# EAGLE library part ATMEGA128 (library atmel_prototype_header)
MICROCONTROLLER 128 Kbytes FLASH 4 Kbytes SRAM 4 Kbytes EEPROM DUAL USART 8-channel 10 bit ADC
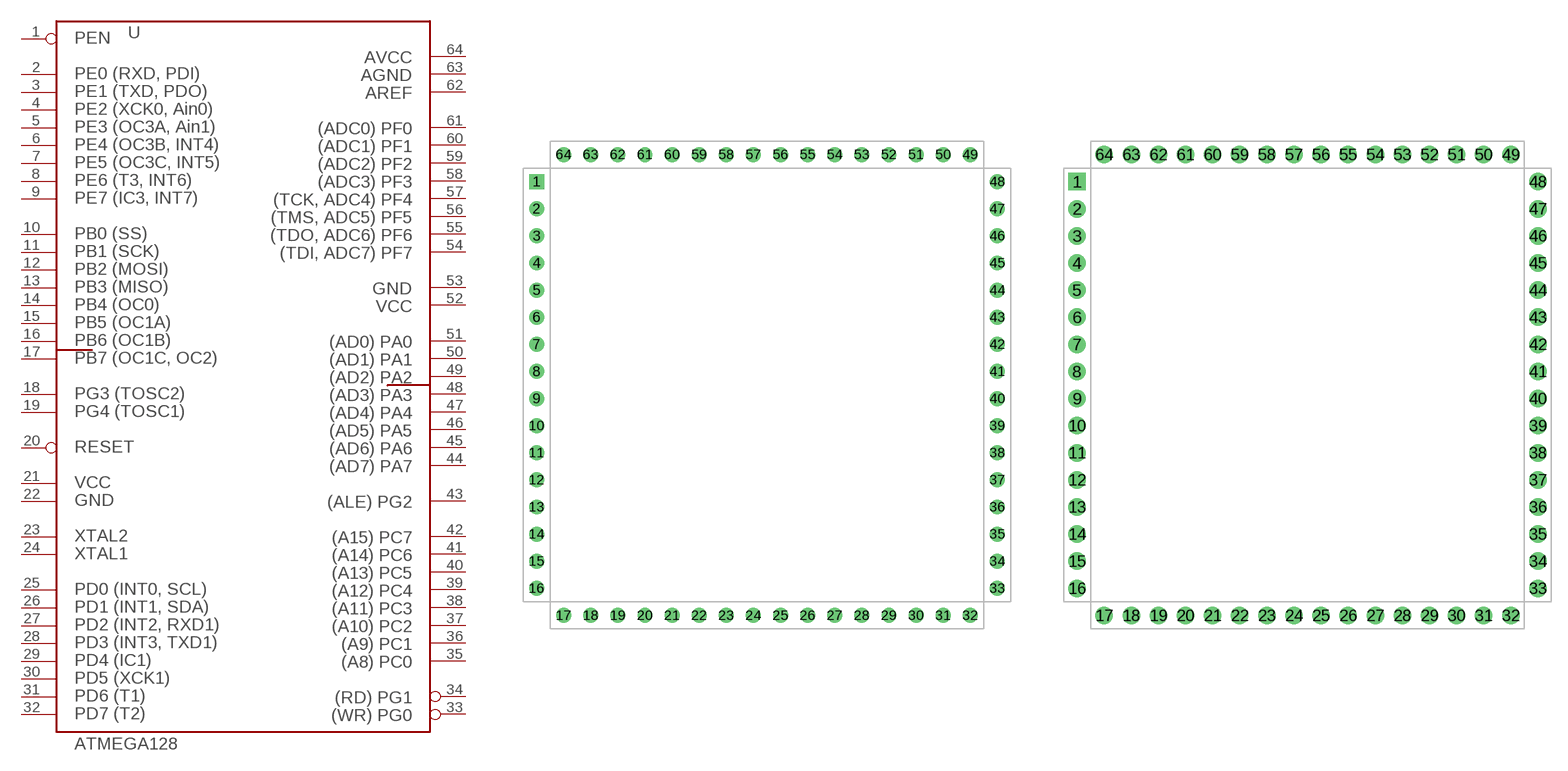
[diagram p0: symbol with the pads of HEADER_SQR64_35; footprints HEADER_SQR64_35, HEADER_SQR64_43]

Designator prefix U

## ATMEGA128_SINGLE64_35  [HEADER_SQR64_35]
1  1  in
2  2
3  3
4  4
5  5
6  6
7  7
8  8
9  9
10  10
11  11
12  12
13  13
14  14
15  15
16  16
17  17
18  18
19  19
20  20  in
21  21  pwr
22  22  pwr
23  23
24  24
25  25
26  26
27  27
28  28
29  29
30  30
31  31
32  32
33  33
34  34
35  35  out
36  36  out
37  37  out
38  38  out
39  39  out
40  40  out
41  41  out
42  42  out
43  43
44  44
45  45
46  46
47  47
48  48
49  49
50  50
51  51
52  52  pwr
53  53  pwr
54  54  in
55  55  in
56  56  in
57  57  in
58  58  in
59  59  in
60  60  in
61  61  in
62  62
63  63
64  64

## ATMEGA128_SINGLE64_43  [HEADER_SQR64_43]
Pads as for HEADER_SQR64_35

## ATMEGA128_TQPF  [TQFP64]
Pads as for HEADER_SQR64_35

## ATMEGA128_DUAL64_43  [HEADER_DUALSQR64_43]
Pads as for HEADER_SQR64_35

## ATMEGA128_DUAL64_35  [HEADER_DUALSQR64_35]
Pads as for HEADER_SQR64_35

## Footprint HEADER_SQR64_35 (pad centres in mm)
drill 0.889 square: 1 -10.16,11.43
drill 0.889: 2 -10.16,8.89; 3 -10.16,6.35; 4 -10.16,3.81; 5 -10.16,1.27; 6 -10.16,-1.27; 7 -10.16,-3.81; 8 -10.16,-6.35; 9 -10.16,-8.89; 10 -10.16,-11.43; 11 -10.16,-13.97; 12 -10.16,-16.51; 13 -10.16,-19.05; 14 -10.16,-21.59; 15 -10.16,-24.13; 16 -10.16,-26.67; 17 -7.62,-29.21; 18 -5.08,-29.21; 19 -2.54,-29.21; 20 0,-29.21; 21 2.54,-29.21; 22 5.08,-29.21; 23 7.62,-29.21; 24 10.16,-29.21; 25 12.7,-29.21; 26 15.24,-29.21; 27 17.78,-29.21; 28 20.32,-29.21; 29 22.86,-29.21; 30 25.4,-29.21; 31 27.94,-29.21; 32 30.48,-29.21; 33 33.02,-26.67; 34 33.02,-24.13; 35 33.02,-21.59; 36 33.02,-19.05; 37 33.02,-16.51; 38 33.02,-13.97; 39 33.02,-11.43; 40 33.02,-8.89; 41 33.02,-6.35; 42 33.02,-3.81; 43 33.02,-1.27; 44 33.02,1.27; 45 33.02,3.81; 46 33.02,6.35; 47 33.02,8.89; 48 33.02,11.43; 49 30.48,13.97; 50 27.94,13.97; 51 25.4,13.97; 52 22.86,13.97; 53 20.32,13.97; 54 17.78,13.97; 55 15.24,13.97; 56 12.7,13.97; 57 10.16,13.97; 58 7.62,13.97; 59 5.08,13.97; 60 2.54,13.97; 61 0,13.97; 62 -2.54,13.97; 63 -5.08,13.97; 64 -7.62,13.97

## Footprint HEADER_SQR64_43 (pad centres in mm)
drill 1.092 square: 1 -21.59,19.05
drill 1.092: 2 -21.59,16.51; 3 -21.59,13.97; 4 -21.59,11.43; 5 -21.59,8.89; 6 -21.59,6.35; 7 -21.59,3.81; 8 -21.59,1.27; 9 -21.59,-1.27; 10 -21.59,-3.81; 11 -21.59,-6.35; 12 -21.59,-8.89; 13 -21.59,-11.43; 14 -21.59,-13.97; 15 -21.59,-16.51; 16 -21.59,-19.05; 17 -19.05,-21.59; 18 -16.51,-21.59; 19 -13.97,-21.59; 20 -11.43,-21.59; 21 -8.89,-21.59; 22 -6.35,-21.59; 23 -3.81,-21.59; 24 -1.27,-21.59; 25 1.27,-21.59; 26 3.81,-21.59; 27 6.35,-21.59; 28 8.89,-21.59; 29 11.43,-21.59; 30 13.97,-21.59; 31 16.51,-21.59; 32 19.05,-21.59; 33 21.59,-19.05; 34 21.59,-16.51; 35 21.59,-13.97; 36 21.59,-11.43; 37 21.59,-8.89; 38 21.59,-6.35; 39 21.59,-3.81; 40 21.59,-1.27; 41 21.59,1.27; 42 21.59,3.81; 43 21.59,6.35; 44 21.59,8.89; 45 21.59,11.43; 46 21.59,13.97; 47 21.59,16.51; 48 21.59,19.05; 49 19.05,21.59; 50 16.51,21.59; 51 13.97,21.59; 52 11.43,21.59; 53 8.89,21.59; 54 6.35,21.59; 55 3.81,21.59; 56 1.27,21.59; 57 -1.27,21.59; 58 -3.81,21.59; 59 -6.35,21.59; 60 -8.89,21.59; 61 -11.43,21.59; 62 -13.97,21.59; 63 -16.51,21.59; 64 -19.05,21.59

## Footprint TQFP64 (pad centres in mm)
Thin Plasic Quad Flat Package
smd 1.194 x 0.559: 1 -7.76,5.905; 2 -7.76,5.118; 3 -7.76,4.331; 4 -7.76,3.543; 5 -7.76,2.756; 6 -7.76,1.968; 7 -7.76,1.181; 8 -7.76,0.394; 9 -7.76,-0.394; 10 -7.76,-1.181; 11 -7.76,-1.968; 12 -7.76,-2.756; 13 -7.76,-3.543; 14 -7.76,-4.331; 15 -7.76,-5.118; 16 -7.76,-5.905; 33 7.76,-5.905; 34 7.76,-5.118; 35 7.76,-4.331; 36 7.76,-3.543; 37 7.76,-2.756; 38 7.76,-1.968; 39 7.76,-1.181; 40 7.76,-0.394; 41 7.76,0.394; 42 7.76,1.181; 43 7.76,1.968; 44 7.76,2.756; 45 7.76,3.543; 46 7.76,4.331; 47 7.76,5.118; 48 7.76,5.905
smd 0.559 x 1.194: 17 -5.905,-7.76; 18 -5.118,-7.76; 19 -4.331,-7.76; 20 -3.543,-7.76; 21 -2.756,-7.76; 22 -1.968,-7.76; 23 -1.181,-7.76; 24 -0.394,-7.76; 25 0.394,-7.76; 26 1.181,-7.76; 27 1.968,-7.76; 28 2.756,-7.76; 29 3.543,-7.76; 30 4.331,-7.76; 31 5.118,-7.76; 32 5.905,-7.76; 49 5.905,7.76; 50 5.118,7.76; 51 4.331,7.76; 52 3.543,7.76; 53 2.756,7.76; 54 1.968,7.76; 55 1.181,7.76; 56 0.394,7.76; 57 -0.394,7.76; 58 -1.181,7.76; 59 -1.968,7.76; 60 -2.756,7.76; 61 -3.543,7.76; 62 -4.331,7.76; 63 -5.118,7.76; 64 -5.905,7.76

## Footprint HEADER_DUALSQR64_43 (pad centres in mm)
drill 1.1 square: 1 -13.97,8.89
drill 1.1: 2 -11.43,8.89; 3 -13.97,6.35; 4 -11.43,6.35; 5 -13.97,3.81; 6 -11.43,3.81; 7 -13.97,1.27; 8 -11.43,1.27; 9 -13.97,-1.27; 10 -11.43,-1.27; 11 -13.97,-3.81; 12 -11.43,-3.81; 13 -13.97,-6.35; 14 -11.43,-6.35; 15 -13.97,-8.89; 16 -11.43,-8.89; 17 -8.89,-13.97; 18 -8.89,-11.43; 19 -6.35,-13.97; 20 -6.35,-11.43; 21 -3.81,-13.97; 22 -3.81,-11.43; 23 -1.27,-13.97; 24 -1.27,-11.43; 25 1.27,-13.97; 26 1.27,-11.43; 27 3.81,-13.97; 28 3.81,-11.43; 29 6.35,-13.97; 30 6.35,-11.43; 31 8.89,-13.97; 32 8.89,-11.43; 33 13.97,-8.89; 34 11.43,-8.89; 35 13.97,-6.35; 36 11.43,-6.35; 37 13.97,-3.81; 38 11.43,-3.81; 39 13.97,-1.27; 40 11.43,-1.27; 41 13.97,1.27; 42 11.43,1.27; 43 13.97,3.81; 44 11.43,3.81; 45 13.97,6.35; 46 11.43,6.35; 47 13.97,8.89; 48 11.43,8.89; 49 8.89,13.97; 50 8.89,11.43; 51 6.35,13.97; 52 6.35,11.43; 53 3.81,13.97; 54 3.81,11.43; 55 1.27,13.97; 56 1.27,11.43; 57 -1.27,13.97; 58 -1.27,11.43; 59 -3.81,13.97; 60 -3.81,11.43; 61 -6.35,13.97; 62 -6.35,11.43; 63 -8.89,13.97; 64 -8.89,11.43

## Footprint HEADER_DUALSQR64_35 (pad centres in mm)
drill 0.9 square: 1 -13.97,8.89
drill 0.9: 2 -11.43,8.89; 3 -13.97,6.35; 4 -11.43,6.35; 5 -13.97,3.81; 6 -11.43,3.81; 7 -13.97,1.27; 8 -11.43,1.27; 9 -13.97,-1.27; 10 -11.43,-1.27; 11 -13.97,-3.81; 12 -11.43,-3.81; 13 -13.97,-6.35; 14 -11.43,-6.35; 15 -13.97,-8.89; 16 -11.43,-8.89; 17 -8.89,-13.97; 18 -8.89,-11.43; 19 -6.35,-13.97; 20 -6.35,-11.43; 21 -3.81,-13.97; 22 -3.81,-11.43; 23 -1.27,-13.97; 24 -1.27,-11.43; 25 1.27,-13.97; 26 1.27,-11.43; 27 3.81,-13.97; 28 3.81,-11.43; 29 6.35,-13.97; 30 6.35,-11.43; 31 8.89,-13.97; 32 8.89,-11.43; 33 13.97,-8.89; 34 11.43,-8.89; 35 13.97,-6.35; 36 11.43,-6.35; 37 13.97,-3.81; 38 11.43,-3.81; 39 13.97,-1.27; 40 11.43,-1.27; 41 13.97,1.27; 42 11.43,1.27; 43 13.97,3.81; 44 11.43,3.81; 45 13.97,6.35; 46 11.43,6.35; 47 13.97,8.89; 48 11.43,8.89; 49 8.89,13.97; 50 8.89,11.43; 51 6.35,13.97; 52 6.35,11.43; 53 3.81,13.97; 54 3.81,11.43; 55 1.27,13.97; 56 1.27,11.43; 57 -1.27,13.97; 58 -1.27,11.43; 59 -3.81,13.97; 60 -3.81,11.43; 61 -6.35,13.97; 62 -6.35,11.43; 63 -8.89,13.97; 64 -8.89,11.43